# Altium schematic symbol library 47K.SchLib: 1 symbol
Pins are listed as number, name and electrical type; pins without a type are passive.

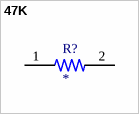
[diagram p0: symbol 47K]

## 47K
designator R?
10 kOhms Â±1% 0.1W, 1/10W Chip Resistor 0603 (1608 Metric) Thick Film; MF: Yageo; MP: RC0603FR-0710KL; Price: None; Check_prices: https://www.snapeda.com/parts/RC0603FR-0710KL/Yageo/view-part/105933/?ref=eda; Value: *; Purchase-URL: https://pricing.snapeda.com/search/part/RC0603FR-0710KL/?ref=eda; Availability: Good; SnapEDA_Link: https://www.snapeda.com/parts/RC0603FR-0710KL/Yageo/view-part/105933/?ref=snap; Package: 0603 Yageo
footprint 47K
pins: 1, 2